# EAGLE library part M08 (library SKAARHOJ)
Header 8 Standard 8-pin 0.1" header. Use with straight break away headers (SKU : PRT-00116), right angle break away headers (PRT-00553), swiss pins (PRT-00743), machine pins (PRT-00117), and female headers (PRT-00115).
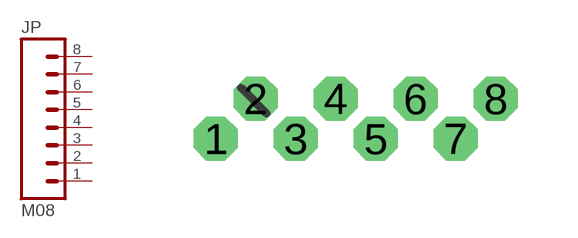
[diagram p11: symbol with the pads of 1X08; footprint 1X08]

Designator prefix JP

## M081X08  [1X08]
1  1  pas
2  2  pas
3  3  pas
4  4  pas
5  5  pas
6  6  pas
7  7  pas
8  8  pas

## Footprint 1X08 (pad centres in mm)
drill 0.6 octagon: 1 0,0; 2 1,1; 3 2,0; 4 3,1; 5 4,0; 6 5,1; 7 6,0; 8 7,1